# EAGLE library part TPS54231 (library texas)
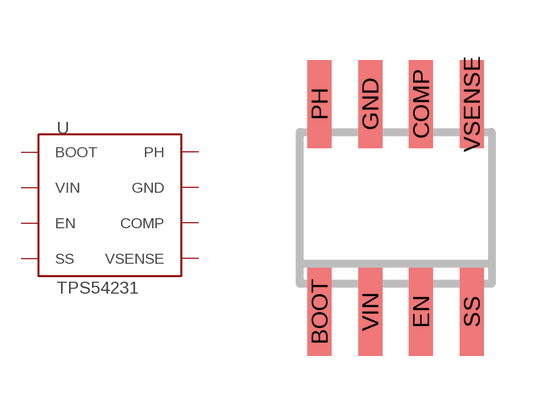
[diagram p128: symbol with the pads of SOIC8; footprint SOIC8]

Designator prefix U

## TPS54231  [SOIC8]
BOOT  BOOT
COMP  COMP
EN  EN
GND  GND
PH  PH
SS  SS
VIN  VIN
VSENSE  VSENSE

## Footprint SOIC8 (pad centres in mm)
Small Outline IC
smd 0.6 x 2.2: BOOT -1.905,-2.6; COMP 0.635,2.6; EN 0.635,-2.6; GND -0.635,2.6; PH -1.905,2.6; SS 1.905,-2.6; VIN -0.635,-2.6; VSENSE 1.905,2.6